# Altium footprint library BIBLIOTECA EXEMPLO - SMD.PcbLib: 1 footprints
Each footprint in its own frame and in the unit in brackets; x right, y up, seen from the top. Pads: shape width x height; smd on the part's side, far side on the other; paste and mask are expansions set on the pad; w line width, h text height; cw(c..) or ccw(c..) is an arc to the next point about the centre after c.
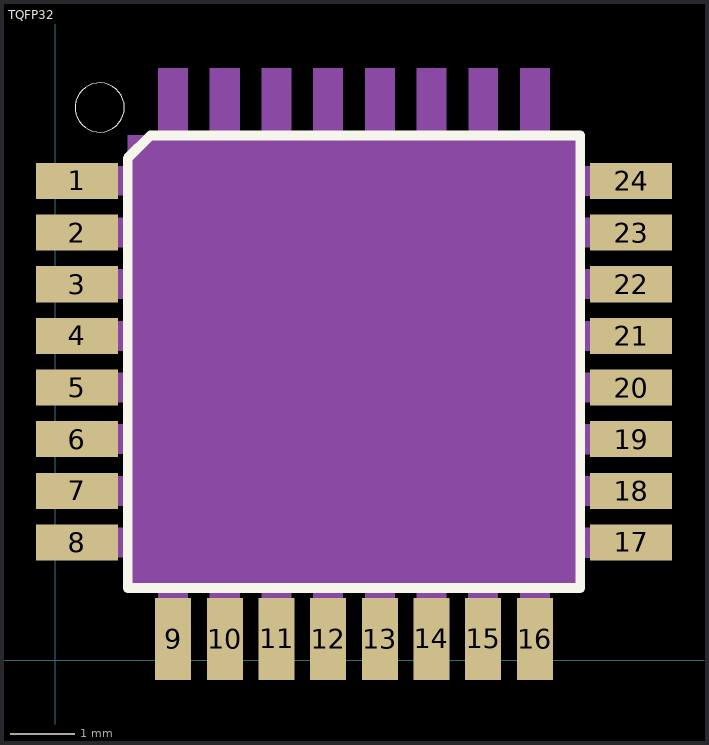
[diagram p0: the footprint, top view; thin cyan lines are the x and y axes]

## TQFP32 [mil]
pads (24):
  rect 50x22 smd: 1(13,292.24) 2(13,260.74) 3(13,229.24) 4(13,197.75) 5(13,166.25) 6(13,134.76) 7(13,103.26) 8(13,71.76) 17(351,71.76) 18(351,103.26) 19(351,134.76) 20(351,166.25) 21(351,197.75) 22(351,229.24) 23(351,260.74) 24(351,292.24)
  rect 22x50 smd: 9(71.77,13) 10(103.26,13) 11(134.76,13) 12(166.25,13) 13(197.75,13) 14(229.25,13) 15(260.74,13) 16(292.24,13)
Top Overlay:
  circle w0: c27,337 r15
  lines w6: 44.01,44.01 44.01,306.02 57.99,319.99 319.99,319.99 319.99,44.01 44.01,44.01
Mechanical 4:
  drawing of 64 lines, arcs and shapes, not listed
Mechanical 16:
  region: 43.95,319.99 319.99,319.99 319.99,43.95 43.95,43.95
3D body "32A-M.step": height 47.09, standoff 0, extent 0,0 364.01,364.01